# Altium integrated library C0603X132F4HAC7867.IntLib: 1 symbol
Pins are listed as number, name and electrical type; pins without a type are passive.

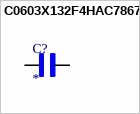
[diagram p0: symbol C0603X132F4HAC7867]

## C0603X132F4HAC7867
designator C?
CAP CER 0603 1.3NF 16V ULTRA STA; MF: KEMET; MP: C0603X132F4HAC7867; SnapEDA_Link: https://www.snapeda.com/parts/C0603X132F4HAC7867/KEMET/view-part/?ref=snap; Package: 1608 KEMET; Value: *; Check_prices: https://www.snapeda.com/parts/C0603X132F4HAC7867/KEMET/view-part/?ref=eda
footprint CAPC1608X95N
pins: 1, 2